# Altium schematic symbol library Schlib.SchLib: 13 symbols
Pins are listed as number, name and electrical type; pins without a type are passive.

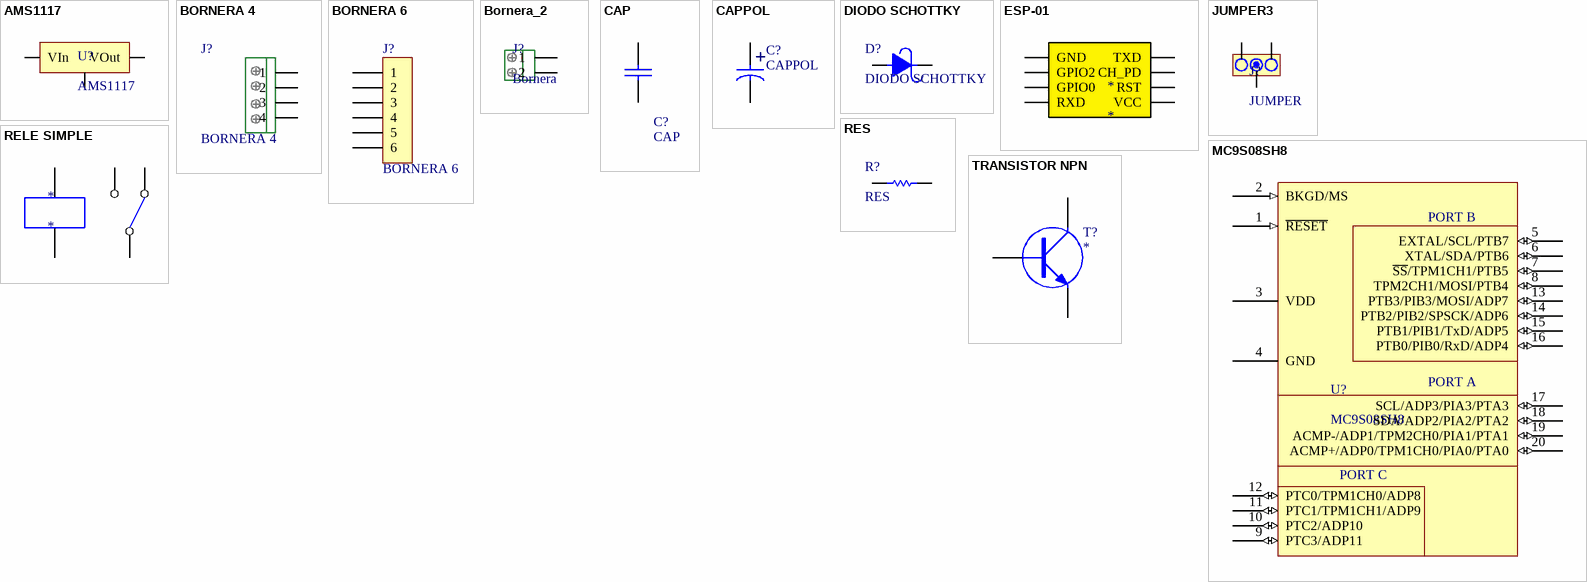
[diagram p0: symbols AMS1117 to TRANSISTOR NPN]

## AMS1117
designator U?
footprint AMS1117 (SOT223, 4-Leads, Body 6,50x7,00mm (avg), Pitch 2,30mm, IPC Medium Density)
pins: 1 VIn, 2 GND, 3 VOut

## BORNERA 4
designator J?
footprint BORNERA4 (Bornera con Tornillos 5mm separaci�n)
pins: 1, 2, 3, 4

## BORNERA 6
designator J?
footprint BORNERA6 (Bornera con Tornillos 5mm separaci�n)
pins: 1, 2, 3, 4, 5, 6

## Bornera_2
designator J?, comment Bornera
Bornera de 2 pines; Autor: Guido Spataro; Datasheet: Libebal; Fecha: 07/04/19
footprint BORNERA2 (Bornera con Tornillos 5mm separaci�n)
pins: 1, 2

## CAP
designator C?
Autor: Guido Spataro; Data: Libebal; Fecha: 07/04/19
footprint 0805 (Pasivo 0805)
footprint 1206 (Pasivo 1206)
pins: 1, 2

## CAPPOL
designator C?
Cap polarizado
footprint Capol (Body diameter 6.5mm)
footprint CAP200RP2 (Body Diameter 12.5mm)
footprint CAP100RP (Body diameter 5mm)
pins: 1, 2
text: +

## DIODO SCHOTTKY
designator D?
Diodo; Autor: Guido Spataro; DAta: https://assets.nexperia.com/documents/outline-drawing/SOD123.pdf; Fecha: 07/04/19
footprint Diodo (SODFL, 2-Leads, Body 1,60x3,60mm, IPC Medium Density)
pins: 1, 2

## ESP-01
designator *
footprint ESP-01
pins: 1 GND, 2 GPIO2, 3 GPIO0, 4 RXD, 5 TXD, 6 CH_PD, 7 RST, 8 VCC

## JUMPER3
designator J?, comment JUMPER
footprint SIP3
pins: 1, 2, 3

## MC9S08SH8
designator U?
Micro controlador; Autor: Guido Spataro; data: https://www.nxp.com/docs/en/data-sheet/MC9S08SH8.pdf; Fecha: 07/04/19
footprint SH8 (SOP, 20-Leads, Body 12,80x7,50mm, Pitch 1,27mm, IPC Medium Density)
pins: 1 ~{RESET} (in), 2 BKGD/MS (in), 3 VDD, 4 GND, 5 EXTAL/SCL/PTB7 (io), 6 XTAL/SDA/PTB6 (io), 7 ~{SS}/TPM1CH1/PTB5 (io), 8 TPM2CH1/MOSI/PTB4 (io), 9 PTC3/ADP11 (io), 10 PTC2/ADP10 (io), 11 PTC1/TPM1CH1/ADP9 (io), 12 PTC0/TPM1CH0/ADP8 (io), 13 PTB3/PIB3/MOSI/ADP7 (io), 14 PTB2/PIB2/SPSCK/ADP6 (io), 15 PTB1/PIB1/TxD/ADP5 (io), 16 PTB0/PIB0/RxD/ADP4 (io), 17 SCL/ADP3/PIA3/PTA3 (io), 18 SDA/ADP2/PIA2/PTA2 (io), 19 ACMP-/ADP1/TPM2CH0/PIA1/PTA1 (io), 20 ACMP+/ADP0/TPM1CH0/PIA0/PTA0 (io)
text: PORT B; PORT A; PORT C

## RELE SIMPLE
designator *
footprint RELE SERIE 943
footprint RELE SERIE 964
pins: B1, B2, C1, NA1, NC1

## RES
designator R?
Resistencia; Autor: Guido Spataro; Data: Libebal; Fecha: 07/04/19
footprint 0805 (Pasivo 0805)
pins: 1, 2

## TRANSISTOR NPN
designator T?
footprint SOT23
pins: 1 B, 2 C, 3 E